# Altium footprint library Custom.PcbLib: 446 footprints (part 20 of 28)
Each footprint in its own frame and in the unit in brackets; x right, y up, seen from the top. Pads: shape width x height; smd on the part's side, far side on the other; paste and mask are expansions set on the pad; w line width, h text height; cw(c..) or ccw(c..) is an arc to the next point about the centre after c.
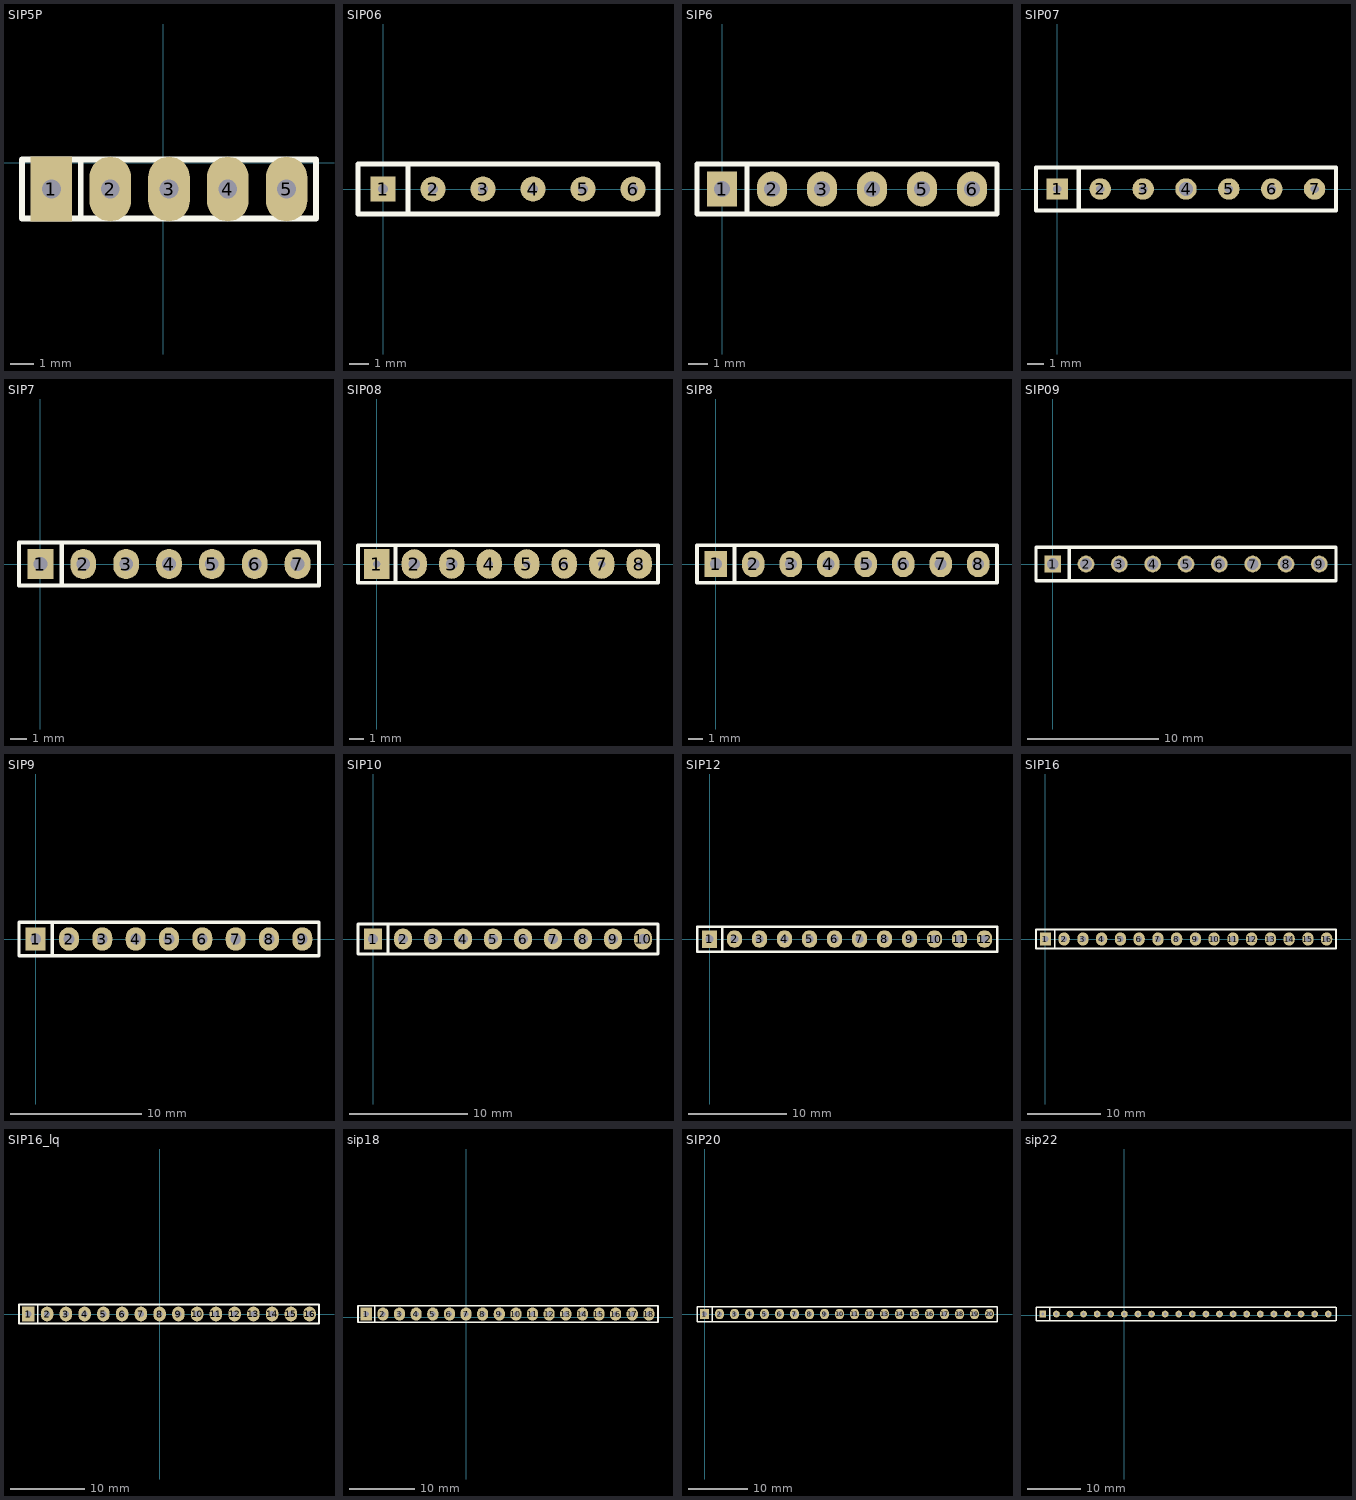
[diagram p19: the footprints below, top view; thin cyan lines are the x and y axes]

## SIP5P [mil]
pads (5):
  rect 70.87x110.24 hole 32: 1(-190,-45)
  oval 70.87x110.24 hole 32: 2(-90,-45) 3(10,-45) 4(110,-45) 5(210,-45)
Top Overlay:
  lines w10: -140,-95 -140,5 ; -240,-95 260,-95 260,5 -240,5 -240,-95

## SIP06 [mm]
pads (6):
  rect 1.27x1.27 hole 0.5: 1(0,0)
  round 1.27 hole 0.5: 2(2.54,0) 3(5.08,0) 4(7.62,0) 5(10.16,0) 6(12.7,0)
Top Overlay:
  lines w0.254: 1.27,-1.27 1.27,1.27 ; -1.27,-1.27 -1.27,1.27 13.97,1.27 13.97,-1.27 -1.27,-1.27

## SIP6 [mil]
pads (6):
  rect 60x70 hole 32: 1(0,0)
  oval 60x70 hole 32: 2(100,0) 3(200,0) 4(300,0) 5(400,0) 6(500,0)
Top Overlay:
  lines w10: 50,-50 50,50 ; -50,-50 550,-50 550,50 -50,50 -50,-50

## SIP07 [mm]
pads (7):
  rect 1.27x1.27 hole 0.5: 1(0,0)
  round 1.27 hole 0.5: 2(2.54,0) 3(5.08,0) 5(10.16,0) 6(12.7,0) 7(15.24,0)
  round 1.27 hole 0.813: 4(7.62,0)
Top Overlay:
  lines w0.254: 1.27,-1.27 1.27,1.27 ; -1.27,-1.27 -1.27,1.27 16.51,1.27 16.51,-1.27 -1.27,-1.27

## SIP7 [mil]
pads (7):
  rect 60x70 hole 32: 1(0,0)
  oval 60x70 hole 32: 2(100,0) 3(200,0) 4(300,0) 5(400,0) 6(500,0) 7(600,0)
Top Overlay:
  lines w10: 50,-50 50,50 ; -50,-50 650,-50 650,50 -50,50 -50,-50

## SIP08 [mm]
pads (8):
  rect 1.7x2 hole 0.5: 1(0,0)
  oval 1.7x2 hole 0.8: 2(2.54,0) 3(5.08,0)
  oval 1.7x2 hole 0.5: 4(7.62,0) 5(10.16,0) 6(12.7,0) 7(15.24,0) 8(17.78,0)
Top Overlay:
  lines w0.254: 1.27,-1.27 1.27,1.27 ; -1.27,-1.27 19.05,-1.27 19.05,1.27 -1.27,1.27 -1.27,-1.27

## SIP8 [mil]
pads (8):
  rect 60x70 hole 32: 1(0,0)
  oval 60x70 hole 32: 2(100,0) 3(200,0) 4(300,0) 5(400,0) 6(500,0) 7(600,0) 8(700,0)
Top Overlay:
  lines w10: 50,-50 50,50 ; -50,-50 750,-50 750,50 -50,50 -50,-50

## SIP09 [mm]
pads (9):
  rect 1.27x1.27 hole 0.9: 1(0,0)
  round 1.27 hole 0.9: 2(2.54,0) 3(5.08,0) 4(7.62,0) 5(10.16,0) 6(12.7,0) 7(15.24,0) 8(17.78,0) 9(20.32,0)
Top Overlay:
  lines w0.254: 1.27,-1.27 1.27,1.27 ; -1.27,-1.27 -1.27,1.27 21.59,1.27 21.59,-1.27 -1.27,-1.27

## SIP9 [mil]
pads (9):
  rect 60x70 hole 32: 1(0,0)
  oval 60x70 hole 32: 2(100,0) 3(200,0) 4(300,0) 5(400,0) 6(500,0) 7(600,0) 8(700,0) 9(800,0)
Top Overlay:
  lines w10: 50,-50 50,50 ; -50,-50 850,-50 850,50 -50,50 -50,-50

## SIP10 [mil]
pads (10):
  rect 60x70 hole 32: 1(0,0)
  oval 60x70 hole 32: 2(100,0) 3(200,0) 4(300,0) 5(400,0) 6(500,0) 7(600,0) 8(700,0) 9(800,0) 10(900,0)
Top Overlay:
  lines w10: 50,-50 50,50 ; -50,-50 -50,50 950,50 950,-50 -50,-50

## SIP12 [mil]
pads (12):
  rect 60x70 hole 32: 1(0,0)
  oval 60x70 hole 32: 2(100,0) 3(200,0) 4(300,0) 5(400,0) 6(500,0) 7(600,0) 8(700,0) 9(800,0) 10(900,0) 11(1000,0) 12(1100,0)
Top Overlay:
  lines w10: 50,-50 50,50 ; -50,-50 -50,50 1150,50 1150,-50 -50,-50

## SIP16 [mil]
pads (16):
  rect 60x70 hole 32: 1(0,0)
  oval 60x70 hole 32: 2(100,0) 3(200,0) 4(300,0) 5(400,0) 6(500,0) 7(600,0) 8(700,0) 9(800,0) 10(900,0) 11(1000,0) 12(1100,0) 13(1200,0) 14(1300,0) 15(1400,0) 16(1500,0)
Top Overlay:
  lines w10: 50,-50 50,50 ; -50,-50 -50,50 1550,50 1550,-50 -50,-50

## SIP16_lq [mm]
pads (16):
  rect 1.7x2 hole 0.813: 1(-17.78,0)
  oval 1.7x2 hole 0.813: 2(-15.24,0) 3(-12.7,0) 4(-10.16,0) 5(-7.62,0) 6(-5.08,0) 7(-2.54,0) 8(0,0) 9(2.54,0) 10(5.08,0) 11(7.62,0) 12(10.16,0) 13(12.7,0) 14(15.24,0) 15(17.78,0) 16(20.32,0)
Top Overlay:
  lines w0.254: -16.51,-1.27 -16.51,1.27 ; -19.05,-1.27 -19.05,1.27 21.59,1.27 21.59,-1.27 -19.05,-1.27

## sip18 [mm]
pads (18):
  rect 1.7x2 hole 0.8: 1(-15.24,0.508)
  oval 1.7x2 hole 0.8: 2(-12.7,0.508) 3(-10.16,0.508) 4(-7.62,0.508) 5(-5.08,0.508) 6(-2.54,0.508) 7(0,0.508) 8(2.54,0.508) 9(5.08,0.508) 10(7.62,0.508) 11(10.16,0.508) 12(12.7,0.508) 13(15.24,0.508) 14(17.78,0.508) 15(20.32,0.508) 16(22.86,0.508) 17(25.4,0.508) 18(27.94,0.508)
Top Overlay:
  lines w0.254: -13.97,-0.762 -13.97,1.778 ; 29.337,-0.762 -16.51,-0.762 -16.51,1.778 -16.485,1.803 29.337,1.803 29.337,-0.737

## SIP20 [mil]
pads (20):
  rect 60x70 hole 32: 1(0,0)
  oval 60x70 hole 32: 2(100,0) 3(200,0) 4(300,0) 5(400,0) 6(500,0) 7(600,0) 8(700,0) 9(800,0) 10(900,0) 11(1000,0) 12(1100,0) 13(1200,0) 14(1300,0) 15(1400,0) 16(1500,0) 17(1600,0) 18(1700,0) 19(1800,0) 20(1900,0)
Top Overlay:
  lines w10: 50,-50 50,50 ; -50,-50 -50,50 1950,50 1950,-50 -50,-50

## sip22 [mil]
pads (22):
  rect 50x50 hole 19.68: 1(-598,8)
  round 50 hole 19.68: 2(-498,8) 3(-398,8) 4(-298,8) 5(-198,8) 6(-98,8) 7(2,8) 8(102,8) 9(202,8) 10(302,8) 11(402,8) 12(502,8) 13(602,8) 14(702,8) 15(802,8) 16(902,8) 17(1002,8) 18(1102,8) 19(1202,8) 20(1302,8) 21(1402,8) 22(1502,8)
Top Overlay:
  lines w10: -548,-42 -548,58 ; 1558,-42 1352,-42 -648,-42 -648,58 1352,58 1558,58 ; 1559,-41 1559,59